# Altium footprint library Capacitors.PcbLib: 43 footprints (part 3 of 3)
Each footprint in its own frame and in the unit in brackets; x right, y up, seen from the top. Pads: shape width x height; smd on the part's side, far side on the other; paste and mask are expansions set on the pad; w line width, h text height; cw(c..) or ccw(c..) is an arc to the next point about the centre after c.
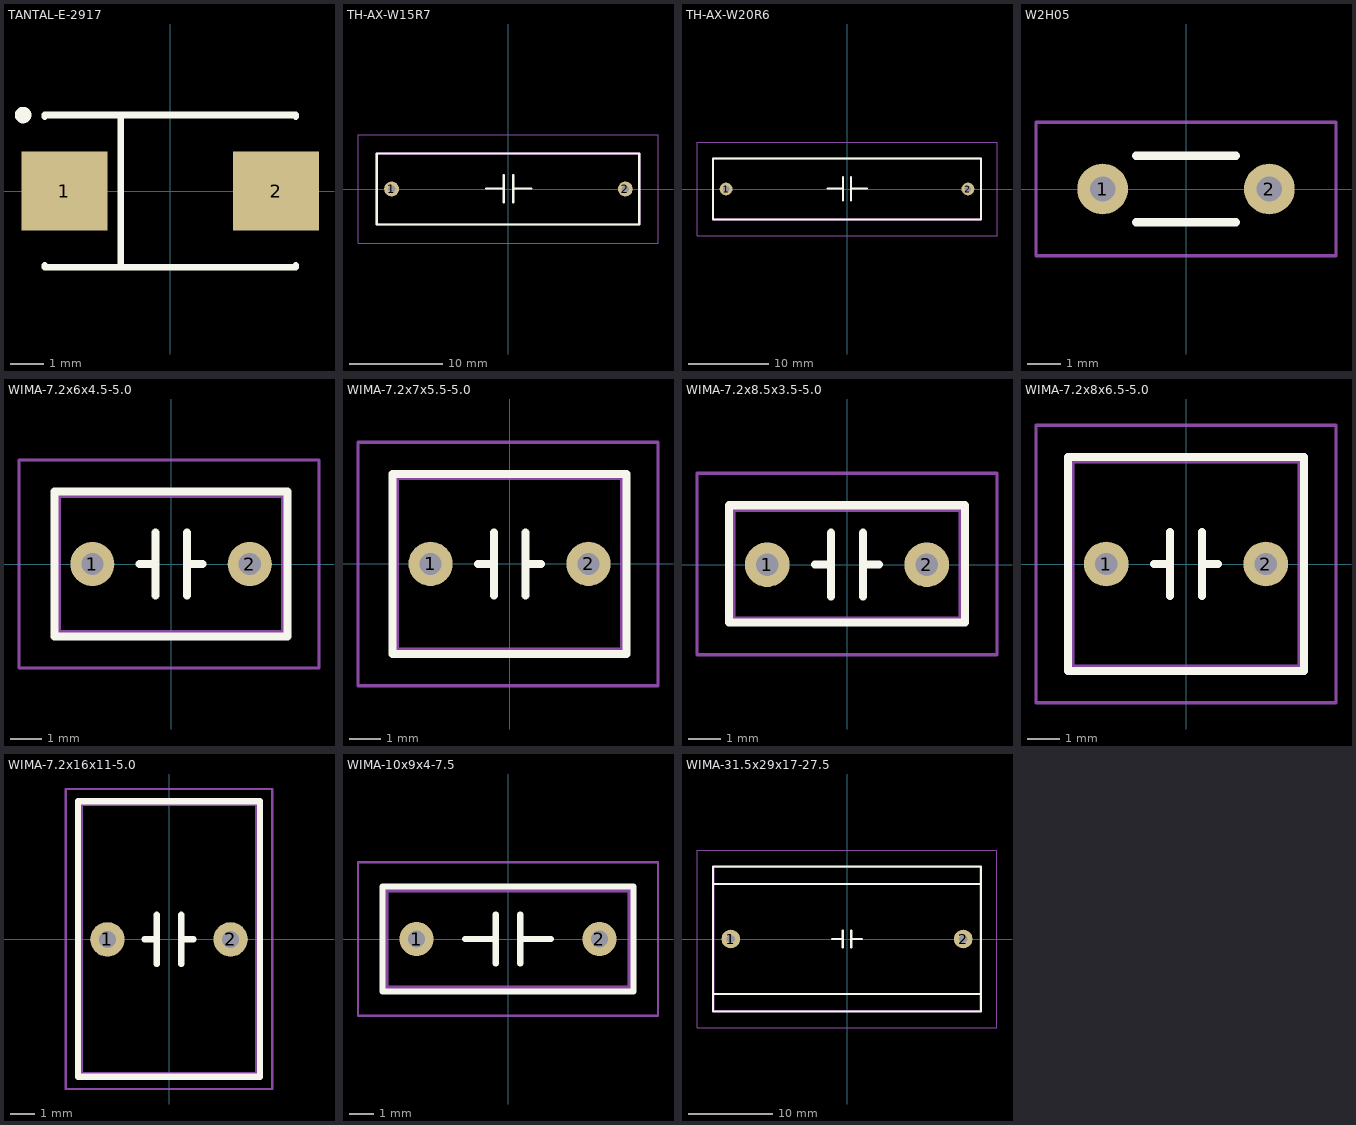
[diagram p2: the footprints below, top view; thin cyan lines are the x and y axes]

## TANTAL-E-2917 [mm]
pads (2):
  rect 2.6x2.4 smd: 1(-3.2,0) 2(3.2,0)
Top Overlay:
  circle w0.25: c-4.45,2.3 r0.125
  lines w0.2: -3.8,-2.25 -3.8,-2.3 3.8,-2.3 3.8,-2.25 ; -3.8,2.25 -3.8,2.3 3.8,2.3 3.8,2.25 ; -1.5,-2.3 -1.5,2.3

## TH-AX-W15R7 [mm] "Axial capacitor with body diameter 7mm length 15mm"
height 7
pads (2):
  round 1.6 hole 0.8: 1(-12.5,0) 2(12.5,0)
Top Overlay:
  lines w0.254: -2.4,0.05 -0.5,0.05 ; -0.5,-1.4 -0.5,1.5 ; 0.5,-1.4 0.5,1.5 ; 0.5,0.05 2.45,0.05 ; -14.1,-3.8 -14.1,3.8 14,3.8 14,-3.8 -14.1,-3.8
Mechanical 13:
  lines w0.254: -14.1,-3.8 -14.1,3.8 -0.3,3.8 14,3.8 14,-3.8 -0.3,-3.8 -14.1,-3.8
Mechanical 15:
  lines w0.1: -16.1,-5.8 -16.1,5.8 16,5.8 16,-5.8 -16.1,-5.8
3D body: height 3.8, standoff 3.2, extent -12.4,-0.299 -7.4,0.3
3D body: height 3.8, standoff 3.2, extent 7.5,-0.303 12.5,0.296
3D body: height 7, standoff 0, extent -7.5,-3.5 7.5,3.494
3D body: height 3.5, standoff -1.5, extent -12.797,-0.299 -12.2,0.3
3D body: height 3.5, standoff -1.5, extent 12.203,-0.302 12.8,0.296

## TH-AX-W20R6 [mm] "Axial capacitor with body diameter 6.5mm length 20mm"
height 6.5
pads (2):
  round 1.6 hole 0.8: 1(-15,0) 2(15,0)
Top Overlay:
  lines w0.254: -2.4,0.05 -0.5,0.05 ; -0.5,-1.4 -0.5,1.5 ; 0.5,-1.4 0.5,1.5 ; 0.5,0.05 2.45,0.05 ; -16.6,-3.8 16.6,-3.8 16.6,3.8 -16.6,3.8 -16.6,-3.8
Mechanical 13:
  lines w0.254: -16.6,-3.8 -0.3,-3.8 16.6,-3.8 16.6,3.8 -0.3,3.8 -16.6,3.8 -16.6,-3.8
Mechanical 15:
  lines w0.1: -18.6,-5.8 18.6,-5.8 18.6,5.8 -18.6,5.8 -18.6,-5.8
3D body: height 3.5, standoff -1.5, extent 14.703,-0.299 15.3,0.3
3D body: height 3.5, standoff -1.5, extent -15.299,-0.3 -14.701,0.299
3D body: height 6.75, standoff 0.25, extent -10,-3.25 10,3.244
3D body: height 3.8, standoff 3.2, extent 10,-0.3 15,0.299
3D body: height 3.8, standoff 3.2, extent -15,-0.3 -10,0.299

## W2H05 [mil] "Width 2mm, between holes 5mm"
height 314.96
pads (2):
  round 60 hole 30: 1(-98.43,0) 2(98.43,0)
Top Overlay:
  lines w10: -59.06,-39.37 59.06,-39.37 ; -59.06,39.37 59.06,39.37
Mechanical 15:
  lines w3.94: -177.17,-78.74 -177.17,78.74 177.17,78.74 177.17,-78.74 -177.17,-78.74

## WIMA-7.2x6x4.5-5.0 [mm] "Width 7.2mm, between holes 5mm"
height 6
pads (2):
  round 1.4 hole 0.7: 1(-2.5,0) 2(2.5,0)
Top Overlay:
  lines w0.254: -1,0 -0.5,0 ; -0.5,-1 -0.5,1 ; 0.5,-1 0.5,1 ; 0.5,0 1,0 ; -3.7,-2.3 -3.7,2.3 3.7,2.3 3.7,-2.3 -3.7,-2.3
Mechanical 13:
  lines w0.2: -3.6,-2.2 -3.6,2.2 3.6,2.2 3.6,-2.2 -3.6,-2.2
Mechanical 15:
  lines w0.1: -4.83,-3.3 -4.83,3.3 4.7,3.3 4.7,-3.3 -4.83,-3.3
3D body "User Library-FKP2 100pF-100 FKP2D001001D00.step": height 6.1, standoff -3.9, extent -3.6,-2.25 3.6,2.26

## WIMA-7.2x7x5.5-5.0 [mm] "Width 7.2mm, between holes 5mm"
height 7
pads (2):
  round 1.4 hole 0.7: 1(-2.5,0) 2(2.5,0)
Top Overlay:
  lines w0.254: -1,0 -0.5,0 ; -0.5,-1 -0.5,1 ; 0.5,-1 0.5,1 ; 0.5,0 1,0 ; -3.7,-2.85 -3.7,2.85 3.7,2.85 3.7,-2.85 -3.7,-2.85
Mechanical 13:
  lines w0.2: -3.6,-2.75 -3.6,2.75 3.6,2.75 3.6,-2.75 -3.6,-2.75
Mechanical 15:
  lines w0.1: -4.8,-3.86 -4.8,3.85 4.7,3.85 4.7,-3.86 -4.8,-3.86
3D body "User Library-FKP2 100pF-100 FKP2D001001D00.step": height 6.1, standoff -3.9, extent -3.6,-2.25 3.6,2.26

## WIMA-7.2x8.5x3.5-5.0 [mm] "Width 7.2mm, between holes 5mm"
height 8.5
pads (2):
  round 1.4 hole 0.7: 1(-2.5,0) 2(2.5,0)
Top Overlay:
  lines w0.254: -1,0 -0.5,0 ; -0.5,-1 -0.5,1 ; 0.5,-1 0.5,1 ; 0.5,0 1,0 ; -3.7,-1.814 3.7,-1.814 3.7,1.861 -3.7,1.861 -3.7,-1.814
Mechanical 13:
  lines w0.2: -3.6,-1.73 3.6,-1.73 3.6,1.75 -3.6,1.75 -3.6,-1.73
Mechanical 15:
  lines w0.1: -4.7,-2.82 4.7,-2.82 4.7,2.861 -4.7,2.861 -4.7,-2.82
3D body "User Library-CAPRR500W50L720T300H750_WIMA_1B.STEP": height 7.65, standoff -2.35, extent -3.6,-1.5 3.6,1.5

## WIMA-7.2x8x6.5-5.0 [mm] "Width 7.2mm, between holes 5mm"
height 8
pads (2):
  round 1.4 hole 0.7: 1(-2.5,0) 2(2.5,0)
Top Overlay:
  lines w0.254: -1,0 -0.5,0 ; -0.5,-1 -0.5,1 ; 0.5,-1 0.5,1 ; 0.5,0 1,0 ; -3.7,-3.35 3.7,-3.35 3.7,3.35 -3.7,3.35 -3.7,-3.35
Mechanical 13:
  lines w0.2: -3.6,-3.25 3.6,-3.25 3.6,3.25 -3.6,3.25 -3.6,-3.25
Mechanical 15:
  lines w0.1: -4.7,-4.35 4.7,-4.35 4.7,4.35 -4.7,4.35 -4.7,-4.35
3D body "User Library-FKP2 10nF-100 FKP2D021001I00.step": height 8.2, standoff -3.8, extent -3.6,-3.25 3.6,3.26

## WIMA-7.2x16x11-5.0 [mm] "Width 7.2mm, between holes 5mm"
height 16
pads (2):
  round 1.4 hole 0.7: 1(-2.5,0) 2(2.5,0)
Top Overlay:
  lines w0.254: -1,0 -0.5,0 ; -0.5,-1 -0.5,1 ; 0.5,-1 0.5,1 ; 0.5,0 1,0 ; -3.7,-5.58 3.7,-5.58 3.7,5.61 -3.7,5.61 -3.7,-5.58
Mechanical 13:
  lines w0.2: -3.61,5.51 3.59,5.51 ; -3.6,5.51 -3.6,-5.49 3.6,-5.49 3.6,5.51
Mechanical 15:
  lines w0.1: -4.2,-6.08 4.2,-6.08 4.2,6.11 -4.2,6.11 -4.2,-6.08
3D body "User Library-MKS2_11_16_7_2.step": height 16, standoff -6, extent -3.6,-5.5 3.6,5.5

## WIMA-10x9x4-7.5 [mm] "Width 10mm, between holes 7.5mm"
height 9
pads (2):
  round 1.4 hole 0.7: 1(-3.75,0) 2(3.75,0)
Top Overlay:
  lines w0.254: -1.75,0 -0.5,0 ; -0.5,-1 -0.5,1 ; 0.5,-1 0.5,1 ; 0.5,0 1.75,0 ; -5.15,-2.15 -5.15,2.15 5.15,2.15 5.15,-2.15 -5.15,-2.15
Mechanical 13:
  lines w0.2: -5,-2 -5,2 5,2 5,-2 -5,-2
Mechanical 15:
  lines w0.1: -6.15,-3.15 -6.15,3.15 6.15,3.15 6.15,-3.15 -6.15,-3.15
3D body "User Library-CAPRR750W60L1000T400H900_WIMA_2C.STEP": height 8.85, standoff -2.65, extent -5,-2 5,2

## WIMA-31.5x29x17-27.5 [mm] "Width 31.5mm, between holes 27.5mm"
height 29
pads (2):
  round 2.2 hole 1: 1(-13.75,0) 2(13.75,0)
Top Overlay:
  lines w0.254: -15.85,-6.5 15.85,-6.5 ; -15.85,6.5 15.85,6.5 ; -1.75,0 -0.5,0 ; -0.5,-1 -0.5,1 ; 0.5,-1 0.5,1 ; 0.5,0 1.75,0 ; -15.85,-8.6 -15.85,8.6 15.85,8.6 15.85,-8.6 -15.85,-8.6
Mechanical 13:
  lines w0.2: -15.75,-8.5 -15.75,8.5 15.75,8.5 15.75,-8.5 -15.75,-8.5
Mechanical 15:
  lines w0.1: -17.75,-10.5 -17.75,10.5 17.75,10.5 17.75,-10.5 -17.75,-10.5
3D body "User Library-DCP4I051006G.step": height 29.5, standoff -5, extent -15.8,-8.55 15.7,8.45